# Altium footprint library Flex_PCB_footprints.PcbLib: 36 footprints (part 1 of 3)
Each footprint in its own frame and in the unit in brackets; x right, y up, seen from the top. Pads: shape width x height; smd on the part's side, far side on the other; paste and mask are expansions set on the pad; w line width, h text height; cw(c..) or ccw(c..) is an arc to the next point about the centre after c.
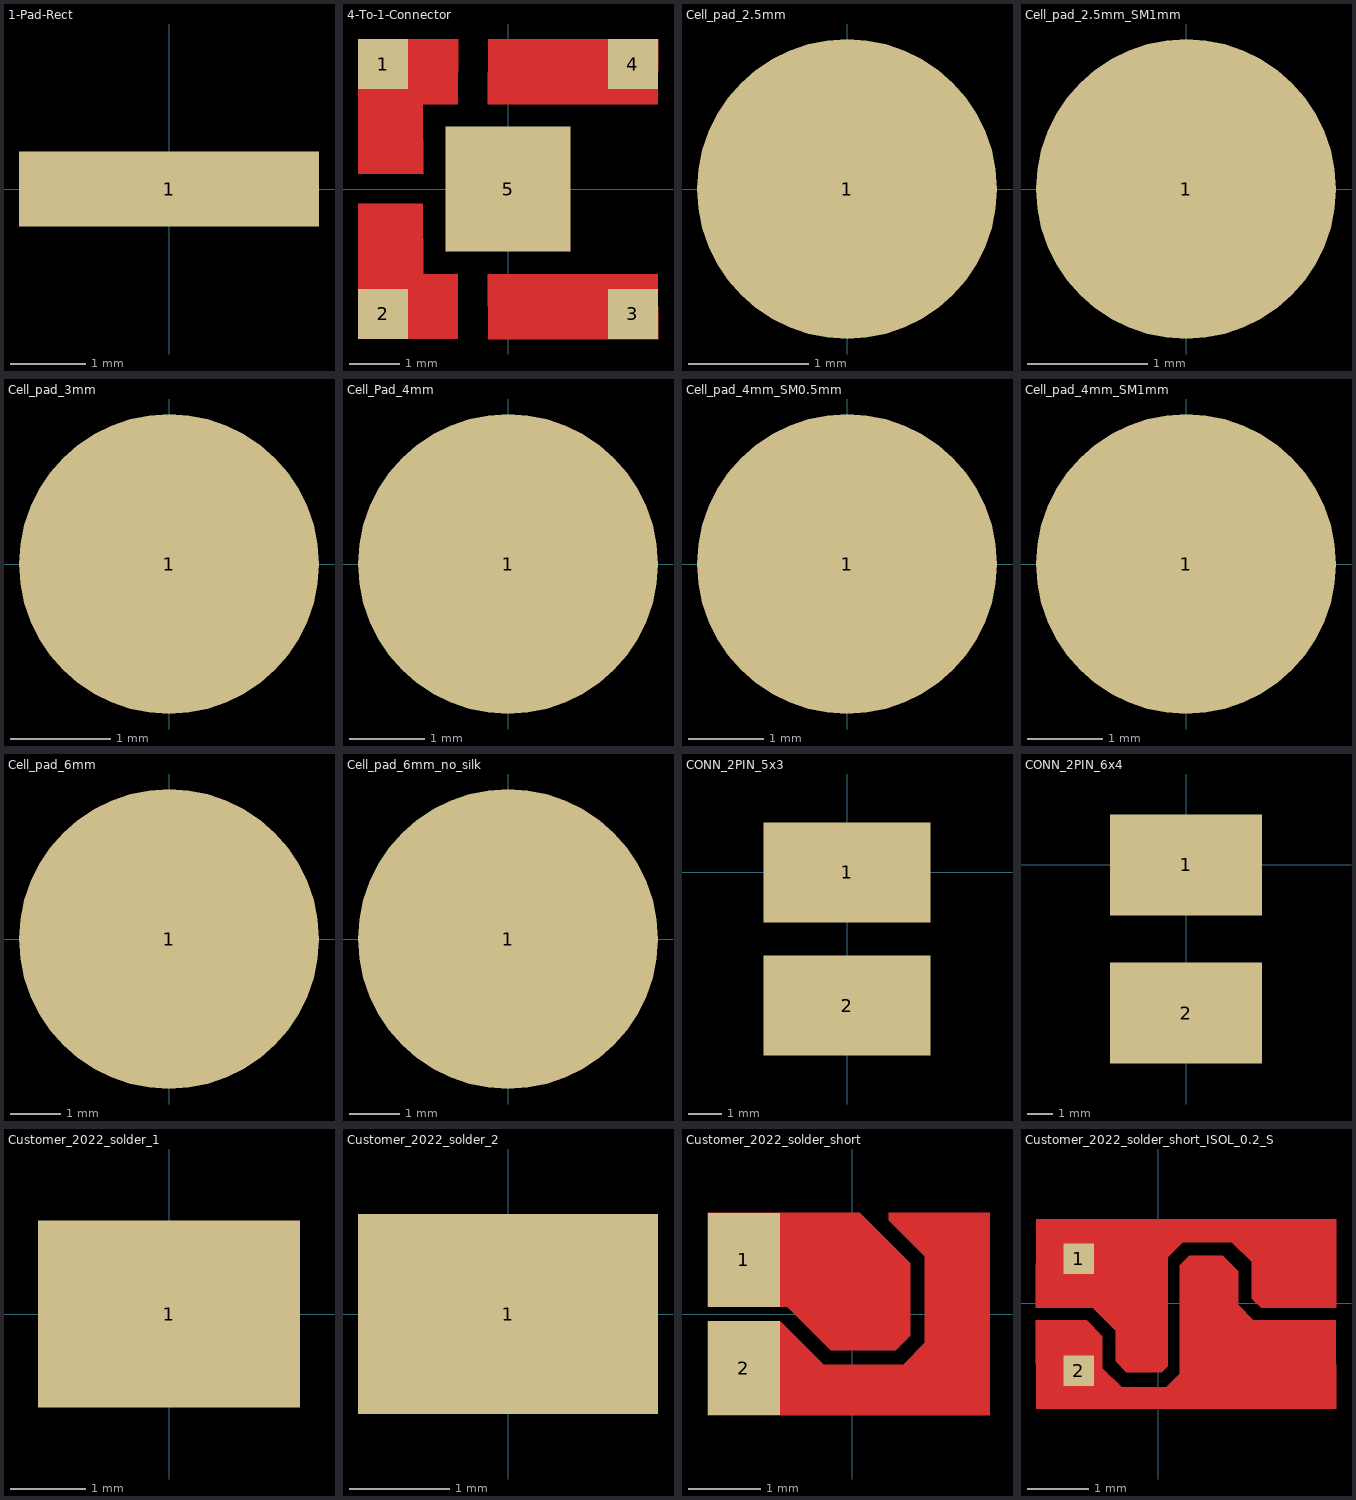
[diagram p0: the footprints below, top view; thin cyan lines are the x and y axes]

## 1-Pad-Rect [mm]
pads (1):
  rect 4x1 smd mask+0: 1(0,0)

## 4-To-1-Connector [mm]
pads (5):
  rect 1x1 smd mask+0.05: 1(-2.5,2.5) 2(-2.5,-2.5) 3(2.5,-2.5) 4(2.5,2.5)
  rect 2.5x2.5 smd mask+0.05: 5(0,0)
Top Layer:
  region: 3,3 -0.4,3 -0.4,1.7 3,1.7
  region: -3,3 -3,0.3 -1.7,0.3 -1.7,1.7 -1,1.7 -1,3
  region: -3,-3 -1,-3 -1,-1.7 -1.7,-1.7 -1.7,-0.3 -3,-0.3
  region: 3,-3 -0.4,-3 -0.4,-1.7 3,-1.7

## Cell_pad_2.5mm [mm]
pads (1):
  round 2.5 smd mask+0.3: 1(0,0)

## Cell_pad_2.5mm_SM1mm [mm]
pads (1):
  round 2.5 smd mask+1: 1(0,0)

## Cell_pad_3mm [mm]
pads (1):
  round 3 smd mask+0.3: 1(0,0)

## Cell_Pad_4mm [mm]
pads (1):
  round 4 smd mask+0.05: 1(0,0)

## Cell_pad_4mm_SM0.5mm [mm]
pads (1):
  round 4 smd mask+0.5: 1(0,0)

## Cell_pad_4mm_SM1mm [mm]
pads (1):
  round 4 smd mask+1: 1(0,0)

## Cell_pad_6mm [mm]
pads (1):
  round 6 smd mask+0.3: 1(0,0)
Bottom Overlay:
  lines w0.2: -2.819,-1.026 cw(c0,0) -2.819,1.026 ; -1.026,-2.819 ccw(c0,0) 1.026,-2.819 ; -1.026,2.819 cw(c0,0) 1.026,2.819 ; 2.819,-1.026 ccw(c0,0) 2.819,1.026

## Cell_pad_6mm_no_silk [mm]
pads (1):
  round 6 smd mask+0.3: 1(0,0)

## CONN_2PIN_5x3 [mm]
pads (2):
  rect 5x3 smd: 1(0,0) 2(0,-4)

## CONN_2PIN_6x4 [mm]
pads (2):
  rect 6x4 smd: 1(0,0) 2(0,-5.87)

## Customer_2022_solder_1 [mm] "3.5 x 2.5"
pads (1):
  rect 3.5x2.5 smd paste-2 mask+0: 1(0,0)
Top Solder:
  rectangle: -2,-1.5 2,1.5

## Customer_2022_solder_2 [mm] "3.0 x 2.0"
pads (1):
  rect 3x2 smd: 1(0,0)

## Customer_2022_solder_short [mm]
pads (2):
  rect 1x1.3 smd paste-2 mask+0: 1(-1.5,0.75) 2(-1.5,-0.75)
Top Layer:
  region: -2,-1.4 1.9,-1.4 1.9,1.4 0.5,1.4 0.5,1.3 1,0.8 1,-0.4 0.7,-0.7 -0.4,-0.7 -1,-0.1 -2,-0.1
  region: -2,1.4 0.1,1.4 0.8,0.7 0.8,-0.3 0.6,-0.5 -0.3,-0.5 -0.9,0.1 -2,0.1
Top Paste:
  region: -1.8,-1.2 1.7,-1.2 1.7,1.2 0.6,1.2 1,0.8 1,-0.4 0.7,-0.7 -0.4,-0.7 -1,-0.1 -1.8,-0.1
  region: -1.8,1.2 0.3,1.2 0.8,0.7 0.8,-0.3 0.6,-0.5 -0.3,-0.5 -0.9,0.1 -1.8,0.1
Top Solder:
  rectangle: -2,-1.5 2,1.5

## Customer_2022_solder_short_ISOL_0.2_S [mm]
pads (2):
  rect 0.5x0.5 smd paste-2 mask+0: 1(-1.3,0.725) 2(-1.3,-1.1)
Top Layer:
  region: -2,-0.075 -1.075,-0.075 -0.7,-0.45 -0.7,-0.95 -0.525,-1.125 0.05,-1.125 0.15,-1.025 0.15,0.75 0.4,1 1.2,1 1.525,0.675 1.525,0.075 1.675,-0.075 2.9,-0.075 2.9,1.375 -2,1.375
  region: -2,-0.275 -1.175,-0.275 -0.914,-0.536 -0.914,-1.061 -0.6,-1.375 0.125,-1.375 0.35,-1.15 0.35,0.625 0.5,0.775 1.05,0.775 1.3,0.525 1.3,-0.025 1.549,-0.275 2.9,-0.275 2.9,-1.725 -2,-1.725
Top Paste:
  region: -2,-0.075 -1.075,-0.075 -0.7,-0.45 -0.7,-0.95 -0.525,-1.125 0.05,-1.125 0.15,-1.025 0.15,0.75 0.4,1 1.2,1 1.525,0.675 1.525,0.075 1.675,-0.075 2.9,-0.075 2.9,1.375 -2,1.375
  region: -2,-0.275 -1.175,-0.275 -0.914,-0.536 -0.914,-1.061 -0.6,-1.375 0.125,-1.375 0.35,-1.15 0.35,0.625 0.5,0.775 1.05,0.775 1.3,0.525 1.3,-0.025 1.549,-0.275 2.9,-0.275 2.9,-1.725 -2,-1.725
Top Solder:
  rectangle: -2,-1.725 2.9,1.375